# Altium schematic symbol library schLib.SchLib: 1 symbol
Pins are listed as number, name and electrical type; pins without a type are passive.

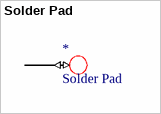
[diagram p0: symbol Solder Pad]

## Solder Pad
designator *
A pad to solder a wire connection to
pins: 1 (io)